# Altium schematic symbol library ADA4610-1.Schlib: 1 symbol
Pins are listed as number, name and electrical type; pins without a type are passive.

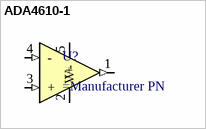
[diagram p0: symbol ADA4610-1]

## ADA4610-1
designator U?
Single JFET Op Amp
pins: 1 (out), 2 V- (power), 3 + (in), 4 - (in), 5 V+ (power)